# EAGLE library part ETH-TRANS (library ethernet transformer)
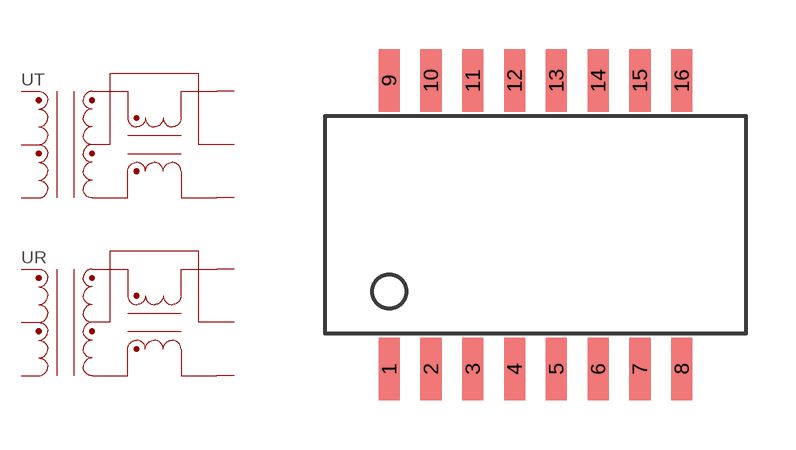
[diagram p0: symbol with the pads of SOIC-16-WIDE; footprint SOIC-16-WIDE]

Designator prefix -; gates T=TRANS-SINGLE R=TRANS-SINGLE

## ETH-TRANS  [SOIC-16-WIDE]
1  T:D+  pas
2  T:CT  pas
3  T:D-  pas
6  R:D+  pas
7  R:CT  pas
8  R:D-  pas
9  R:X-  pas
10  R:XCT  pas
11  R:X+  pas
14  T:X-  pas
15  T:XCT  pas
16  T:X+  pas

## Footprint SOIC-16-WIDE (pad centres in mm)
SOIC, 0.15 inch width
smd 0.64 x 1.9: 1 -4.445,-4.38; 2 -3.175,-4.38; 3 -1.905,-4.38; 4 -0.635,-4.38; 5 0.635,-4.38; 6 1.905,-4.38; 7 3.175,-4.38; 8 4.445,-4.38; 9 -4.445,4.38; 10 -3.175,4.38; 11 -1.905,4.38; 12 -0.635,4.38; 13 0.635,4.38; 14 1.905,4.38; 15 3.175,4.38; 16 4.445,4.38